# Altium footprint library AR06.PcbLib: 1 footprints
Each footprint in its own frame and in the unit in brackets; x right, y up, seen from the top. Pads: shape width x height; smd on the part's side, far side on the other; paste and mask are expansions set on the pad; w line width, h text height; cw(c..) or ccw(c..) is an arc to the next point about the centre after c.
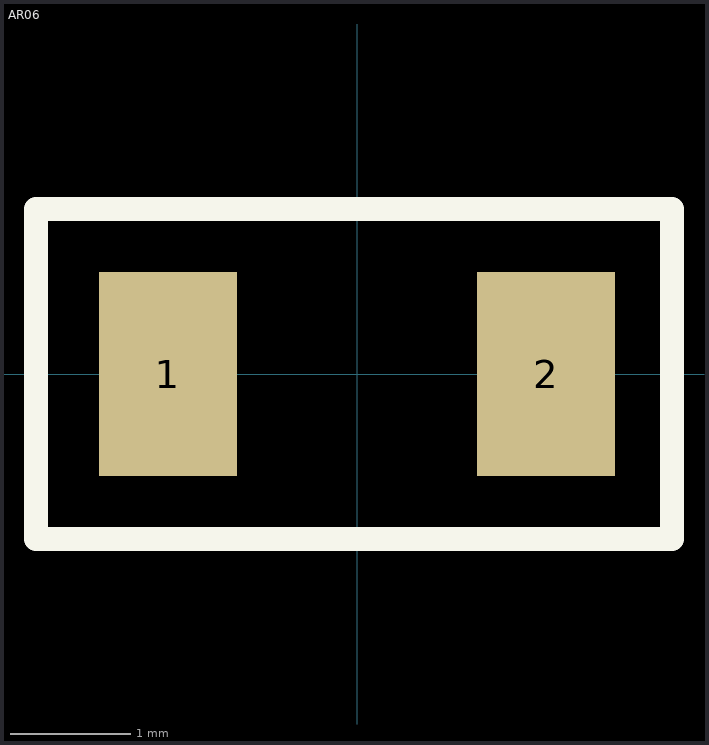
[diagram p0: the footprint, top view; thin cyan lines are the x and y axes]

## AR06 [mm]
pads (2):
  rect 1.15x1.7 smd: 1(-1.575,0) 2(1.575,0)
Top Overlay:
  lines w0.2: -2.675,-1.375 -2.675,0 -2.675,1.375 2.625,1.375 2.625,-1.375 -2.65,-1.375
3D body: height 0.55, standoff 0, extent -1.5,-0.75 1.55,0.8